# Altium schematic symbol library kmilo17pet-NSC_LDO.SchLib: 2675 symbols (part 31 of 65)
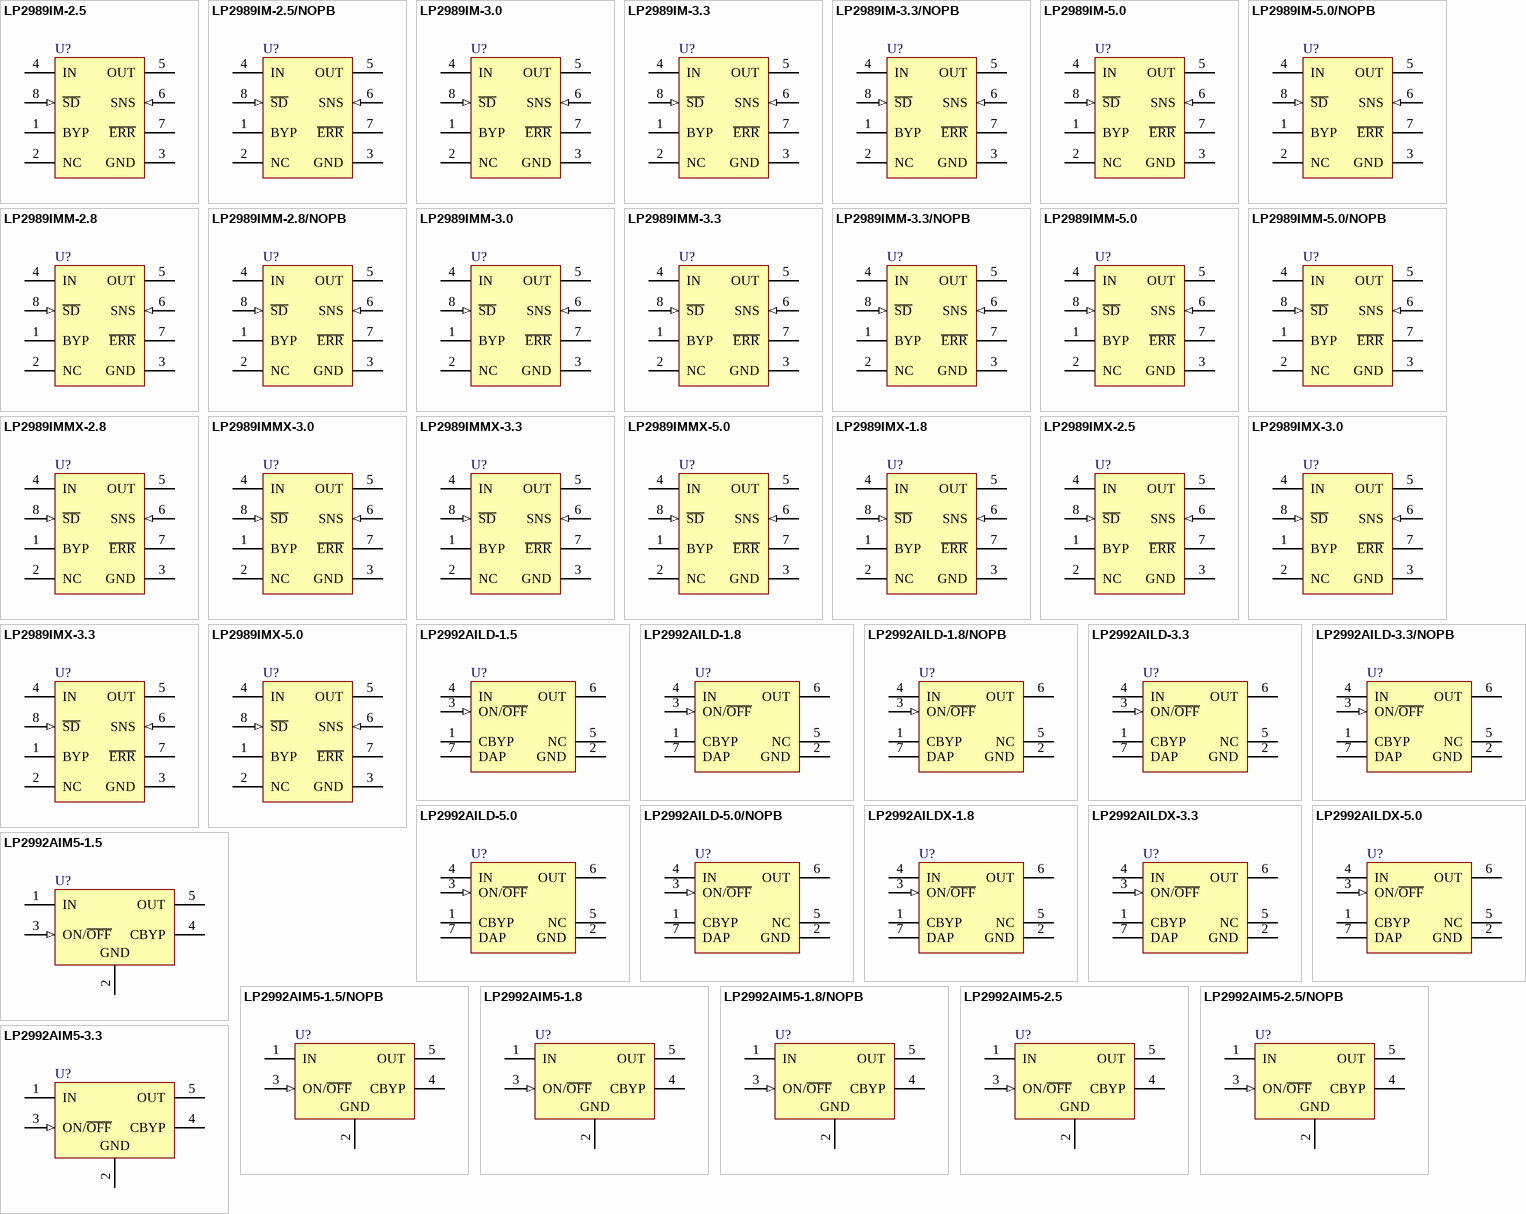
[diagram p97: symbols LP2989IM-2.5 to LP2992AIM5-3.3]

## LP2992AILD-3.3
designator U?
Micropower 250 mA Low-Noise Ultra Low-Dropout Regulator, 6-pin LLP; PartNumber: LP2992AILD-3.3; Manufacturer: National Semiconductor; PackageTopMarking: ZXYTT*L014A; PowerWise: N; CompType: LDO IC; High-Reliability: Y; DatasheetVersion: May-2005; PackageVersion: revA, Jul-2001; PackageReference: LDE06A; PackageDescription: LLP, Plastic, Dual, 2.92 x 3.29 x 0.75mm Body, 6 Lead, 0.95mm Pitch, SOT23 Land; RoHS: N; PinCount: 6; ComponentLink1Description: Manufacturer URL; ComponentLink1URL: http://www.national.com/; ComponentLink2Description: LP2992 Datasheet; ComponentLink2URL: http://www.national.com/ds/LP/LP2992.pdf; ComponentLink3Description: LP2992 Web Page; ComponentLink3URL: http://www.national.com/pf/LP/LP2992.html; ComponentLink4Description: LDE06A Package Page; ComponentLink4URL: http://www.national.com/packaging/folders/lde06a.html
footprint LDE06A (PSON, 6-Leads, Body 2.92x3.29 mm, Pitch 0.95mm, NSC Recommended)
pins: 1 CBYP, 2 GND (power), 3 ON/~{OFF} (in), 4 IN (power), 5 NC, 6 OUT (power), 7 DAP (power)

## LP2992AILD-3.3/NOPB
designator U?
Micropower 250 mA Low-Noise Ultra Low-Dropout Regulator, 6-pin LLP, Pb-Free; PartNumber: LP2992AILD-3.3/NOPB; Manufacturer: National Semiconductor; PackageTopMarking: ZXYTT*L014A; PowerWise: N; CompType: LDO IC; High-Reliability: Y; DatasheetVersion: May-2005; PackageVersion: revA, Jul-2001; PackageReference: LDE06A; PackageDescription: LLP, Plastic, Dual, 2.92 x 3.29 x 0.75mm Body, 6 Lead, 0.95mm Pitch, SOT23 Land; RoHS: Y; PinCount: 6; ComponentLink1Description: Manufacturer URL; ComponentLink1URL: http://www.national.com/; ComponentLink2Description: LP2992 Datasheet; ComponentLink2URL: http://www.national.com/ds/LP/LP2992.pdf; ComponentLink3Description: LP2992 Web Page; ComponentLink3URL: http://www.national.com/pf/LP/LP2992.html; ComponentLink4Description: LDE06A Package Page; ComponentLink4URL: http://www.national.com/packaging/folders/lde06a.html
footprint LDE06A (PSON, 6-Leads, Body 2.92x3.29 mm, Pitch 0.95mm, NSC Recommended)
pins: 1 CBYP, 2 GND (power), 3 ON/~{OFF} (in), 4 IN (power), 5 NC, 6 OUT (power), 7 DAP (power)

## LP2992AILD-5.0
designator U?
Micropower 250 mA Low-Noise Ultra Low-Dropout Regulator, 6-pin LLP; PartNumber: LP2992AILD-5.0; Manufacturer: National Semiconductor; PackageTopMarking: ZXYTT*L015A; PowerWise: N; CompType: LDO IC; High-Reliability: Y; DatasheetVersion: May-2005; PackageVersion: revA, Jul-2001; PackageReference: LDE06A; PackageDescription: LLP, Plastic, Dual, 2.92 x 3.29 x 0.75mm Body, 6 Lead, 0.95mm Pitch, SOT23 Land; RoHS: N; PinCount: 6; ComponentLink1Description: Manufacturer URL; ComponentLink1URL: http://www.national.com/; ComponentLink2Description: LP2992 Datasheet; ComponentLink2URL: http://www.national.com/ds/LP/LP2992.pdf; ComponentLink3Description: LP2992 Web Page; ComponentLink3URL: http://www.national.com/pf/LP/LP2992.html; ComponentLink4Description: LDE06A Package Page; ComponentLink4URL: http://www.national.com/packaging/folders/lde06a.html
footprint LDE06A (PSON, 6-Leads, Body 2.92x3.29 mm, Pitch 0.95mm, NSC Recommended)
pins: 1 CBYP, 2 GND (power), 3 ON/~{OFF} (in), 4 IN (power), 5 NC, 6 OUT (power), 7 DAP (power)

## LP2992AILD-5.0/NOPB
designator U?
Micropower 250 mA Low-Noise Ultra Low-Dropout Regulator, 6-pin LLP, Pb-Free; PartNumber: LP2992AILD-5.0/NOPB; Manufacturer: National Semiconductor; PackageTopMarking: ZXYTT*L015A; PowerWise: N; CompType: LDO IC; High-Reliability: Y; DatasheetVersion: May-2005; PackageVersion: revA, Jul-2001; PackageReference: LDE06A; PackageDescription: LLP, Plastic, Dual, 2.92 x 3.29 x 0.75mm Body, 6 Lead, 0.95mm Pitch, SOT23 Land; RoHS: Y; PinCount: 6; ComponentLink1Description: Manufacturer URL; ComponentLink1URL: http://www.national.com/; ComponentLink2Description: LP2992 Datasheet; ComponentLink2URL: http://www.national.com/ds/LP/LP2992.pdf; ComponentLink3Description: LP2992 Web Page; ComponentLink3URL: http://www.national.com/pf/LP/LP2992.html; ComponentLink4Description: LDE06A Package Page; ComponentLink4URL: http://www.national.com/packaging/folders/lde06a.html
footprint LDE06A (PSON, 6-Leads, Body 2.92x3.29 mm, Pitch 0.95mm, NSC Recommended)
pins: 1 CBYP, 2 GND (power), 3 ON/~{OFF} (in), 4 IN (power), 5 NC, 6 OUT (power), 7 DAP (power)

## LP2992AILDX-1.8
designator U?
Micropower 250 mA Low-Noise Ultra Low-Dropout Regulator, 6-pin LLP; PartNumber: LP2992AILDX-1.8; Manufacturer: National Semiconductor; PackageTopMarking: ZXYTT*L012A; PowerWise: N; CompType: LDO IC; High-Reliability: Y; DatasheetVersion: May-2005; PackageVersion: revA, Jul-2001; PackageReference: LDE06A; PackageDescription: LLP, Plastic, Dual, 2.92 x 3.29 x 0.75mm Body, 6 Lead, 0.95mm Pitch, SOT23 Land; RoHS: N; PinCount: 6; ComponentLink1Description: Manufacturer URL; ComponentLink1URL: http://www.national.com/; ComponentLink2Description: LP2992 Datasheet; ComponentLink2URL: http://www.national.com/ds/LP/LP2992.pdf; ComponentLink3Description: LP2992 Web Page; ComponentLink3URL: http://www.national.com/pf/LP/LP2992.html; ComponentLink4Description: LDE06A Package Page; ComponentLink4URL: http://www.national.com/packaging/folders/lde06a.html
footprint LDE06A (PSON, 6-Leads, Body 2.92x3.29 mm, Pitch 0.95mm, NSC Recommended)
pins: 1 CBYP, 2 GND (power), 3 ON/~{OFF} (in), 4 IN (power), 5 NC, 6 OUT (power), 7 DAP (power)

## LP2992AILDX-3.3
designator U?
Micropower 250 mA Low-Noise Ultra Low-Dropout Regulator, 6-pin LLP; PartNumber: LP2992AILDX-3.3; Manufacturer: National Semiconductor; PackageTopMarking: ZXYTT*L014A; PowerWise: N; CompType: LDO IC; High-Reliability: Y; DatasheetVersion: May-2005; PackageVersion: revA, Jul-2001; PackageReference: LDE06A; PackageDescription: LLP, Plastic, Dual, 2.92 x 3.29 x 0.75mm Body, 6 Lead, 0.95mm Pitch, SOT23 Land; RoHS: N; PinCount: 6; ComponentLink1Description: Manufacturer URL; ComponentLink1URL: http://www.national.com/; ComponentLink2Description: LP2992 Datasheet; ComponentLink2URL: http://www.national.com/ds/LP/LP2992.pdf; ComponentLink3Description: LP2992 Web Page; ComponentLink3URL: http://www.national.com/pf/LP/LP2992.html; ComponentLink4Description: LDE06A Package Page; ComponentLink4URL: http://www.national.com/packaging/folders/lde06a.html
footprint LDE06A (PSON, 6-Leads, Body 2.92x3.29 mm, Pitch 0.95mm, NSC Recommended)
pins: 1 CBYP, 2 GND (power), 3 ON/~{OFF} (in), 4 IN (power), 5 NC, 6 OUT (power), 7 DAP (power)

## LP2992AILDX-5.0
designator U?
Micropower 250 mA Low-Noise Ultra Low-Dropout Regulator, 6-pin LLP; PartNumber: LP2992AILDX-5.0; Manufacturer: National Semiconductor; PackageTopMarking: ZXYTT*L015A; PowerWise: N; CompType: LDO IC; High-Reliability: Y; DatasheetVersion: May-2005; PackageVersion: revA, Jul-2001; PackageReference: LDE06A; PackageDescription: LLP, Plastic, Dual, 2.92 x 3.29 x 0.75mm Body, 6 Lead, 0.95mm Pitch, SOT23 Land; RoHS: N; PinCount: 6; ComponentLink1Description: Manufacturer URL; ComponentLink1URL: http://www.national.com/; ComponentLink2Description: LP2992 Datasheet; ComponentLink2URL: http://www.national.com/ds/LP/LP2992.pdf; ComponentLink3Description: LP2992 Web Page; ComponentLink3URL: http://www.national.com/pf/LP/LP2992.html; ComponentLink4Description: LDE06A Package Page; ComponentLink4URL: http://www.national.com/packaging/folders/lde06a.html
footprint LDE06A (PSON, 6-Leads, Body 2.92x3.29 mm, Pitch 0.95mm, NSC Recommended)
pins: 1 CBYP, 2 GND (power), 3 ON/~{OFF} (in), 4 IN (power), 5 NC, 6 OUT (power), 7 DAP (power)

## LP2992AIM5-1.5
designator U?
Micropower 250 mA Low-Noise Ultra Low-Dropout Regulator, 5-pin SOT-23; PartNumber: LP2992AIM5-1.5; Manufacturer: National Semiconductor; PackageTopMarking: LFBA*XTT; PowerWise: N; CompType: LDO IC; High-Reliability: Y; DatasheetVersion: May-2005; PackageVersion: revD, Aug-2008; PackageReference: MF05A; PackageDescription: Molded SOT-23, .115 x .063 x .040 in Body, 5 Lead, .0375 in Pitch; RoHS: N; PinCount: 5; ComponentLink1Description: Manufacturer URL; ComponentLink1URL: http://www.national.com/; ComponentLink2Description: LP2992 Datasheet; ComponentLink2URL: http://www.national.com/ds/LP/LP2992.pdf; ComponentLink3Description: LP2992 Web Page; ComponentLink3URL: http://www.national.com/pf/LP/LP2992.html; ComponentLink4Description: MF05A Package Page; ComponentLink4URL: http://www.national.com/packaging/folders/mf05a.html
footprint MF05A_N (SOT23, 5-Leads, Body 2.9x1.6mm, Pitch 0.95mm, Lead Span 2.8mm, IPC Medium Density)
footprint MF05A_L (SOT23, 5-Leads, Body 2.9x1.6mm, Pitch 0.95mm, Lead Span 2.8mm, IPC High Density)
footprint MF05A_M (SOT23, 5-Leads, Body 2.9x1.6mm, Pitch 0.95mm, Lead Span 2.8mm, IPC Low Density)
pins: 1 IN (power), 2 GND (power), 3 ON/~{OFF} (in), 4 CBYP, 5 OUT (power)

## LP2992AIM5-1.5/NOPB
designator U?
Micropower 250 mA Low-Noise Ultra Low-Dropout Regulator, 5-pin SOT-23, Pb-Free; PartNumber: LP2992AIM5-1.5/NOPB; Manufacturer: National Semiconductor; PackageTopMarking: LFBA*XTT; PowerWise: N; CompType: LDO IC; High-Reliability: Y; DatasheetVersion: May-2005; PackageVersion: revD, Aug-2008; PackageReference: MF05A; PackageDescription: Molded SOT-23, .115 x .063 x .040 in Body, 5 Lead, .0375 in Pitch; RoHS: Y; PinCount: 5; ComponentLink1Description: Manufacturer URL; ComponentLink1URL: http://www.national.com/; ComponentLink2Description: LP2992 Datasheet; ComponentLink2URL: http://www.national.com/ds/LP/LP2992.pdf; ComponentLink3Description: LP2992 Web Page; ComponentLink3URL: http://www.national.com/pf/LP/LP2992.html; ComponentLink4Description: MF05A Package Page; ComponentLink4URL: http://www.national.com/packaging/folders/mf05a.html
footprint MF05A_N (SOT23, 5-Leads, Body 2.9x1.6mm, Pitch 0.95mm, Lead Span 2.8mm, IPC Medium Density)
footprint MF05A_L (SOT23, 5-Leads, Body 2.9x1.6mm, Pitch 0.95mm, Lead Span 2.8mm, IPC High Density)
footprint MF05A_M (SOT23, 5-Leads, Body 2.9x1.6mm, Pitch 0.95mm, Lead Span 2.8mm, IPC Low Density)
pins: 1 IN (power), 2 GND (power), 3 ON/~{OFF} (in), 4 CBYP, 5 OUT (power)

## LP2992AIM5-1.8
designator U?
Micropower 250 mA Low-Noise Ultra Low-Dropout Regulator, 5-pin SOT-23; PartNumber: LP2992AIM5-1.8; Manufacturer: National Semiconductor; PackageTopMarking: LFCA*XTT; PowerWise: N; CompType: LDO IC; High-Reliability: Y; DatasheetVersion: May-2005; PackageVersion: revD, Aug-2008; PackageReference: MF05A; PackageDescription: Molded SOT-23, .115 x .063 x .040 in Body, 5 Lead, .0375 in Pitch; RoHS: N; PinCount: 5; ComponentLink1Description: Manufacturer URL; ComponentLink1URL: http://www.national.com/; ComponentLink2Description: LP2992 Datasheet; ComponentLink2URL: http://www.national.com/ds/LP/LP2992.pdf; ComponentLink3Description: LP2992 Web Page; ComponentLink3URL: http://www.national.com/pf/LP/LP2992.html; ComponentLink4Description: MF05A Package Page; ComponentLink4URL: http://www.national.com/packaging/folders/mf05a.html
footprint MF05A_N (SOT23, 5-Leads, Body 2.9x1.6mm, Pitch 0.95mm, Lead Span 2.8mm, IPC Medium Density)
footprint MF05A_L (SOT23, 5-Leads, Body 2.9x1.6mm, Pitch 0.95mm, Lead Span 2.8mm, IPC High Density)
footprint MF05A_M (SOT23, 5-Leads, Body 2.9x1.6mm, Pitch 0.95mm, Lead Span 2.8mm, IPC Low Density)
pins: 1 IN (power), 2 GND (power), 3 ON/~{OFF} (in), 4 CBYP, 5 OUT (power)

## LP2992AIM5-1.8/NOPB
designator U?
Micropower 250 mA Low-Noise Ultra Low-Dropout Regulator, 5-pin SOT-23, Pb-Free; PartNumber: LP2992AIM5-1.8/NOPB; Manufacturer: National Semiconductor; PackageTopMarking: LFCA*XTT; PowerWise: N; CompType: LDO IC; High-Reliability: Y; DatasheetVersion: May-2005; PackageVersion: revD, Aug-2008; PackageReference: MF05A; PackageDescription: Molded SOT-23, .115 x .063 x .040 in Body, 5 Lead, .0375 in Pitch; RoHS: Y; PinCount: 5; ComponentLink1Description: Manufacturer URL; ComponentLink1URL: http://www.national.com/; ComponentLink2Description: LP2992 Datasheet; ComponentLink2URL: http://www.national.com/ds/LP/LP2992.pdf; ComponentLink3Description: LP2992 Web Page; ComponentLink3URL: http://www.national.com/pf/LP/LP2992.html; ComponentLink4Description: MF05A Package Page; ComponentLink4URL: http://www.national.com/packaging/folders/mf05a.html
footprint MF05A_N (SOT23, 5-Leads, Body 2.9x1.6mm, Pitch 0.95mm, Lead Span 2.8mm, IPC Medium Density)
footprint MF05A_L (SOT23, 5-Leads, Body 2.9x1.6mm, Pitch 0.95mm, Lead Span 2.8mm, IPC High Density)
footprint MF05A_M (SOT23, 5-Leads, Body 2.9x1.6mm, Pitch 0.95mm, Lead Span 2.8mm, IPC Low Density)
pins: 1 IN (power), 2 GND (power), 3 ON/~{OFF} (in), 4 CBYP, 5 OUT (power)

## LP2992AIM5-2.5
designator U?
Micropower 250 mA Low-Noise Ultra Low-Dropout Regulator, 5-pin SOT-23; PartNumber: LP2992AIM5-2.5; Manufacturer: National Semiconductor; PackageTopMarking: LFDA*XTT; PowerWise: N; CompType: LDO IC; High-Reliability: Y; DatasheetVersion: May-2005; PackageVersion: revD, Aug-2008; PackageReference: MF05A; PackageDescription: Molded SOT-23, .115 x .063 x .040 in Body, 5 Lead, .0375 in Pitch; RoHS: N; PinCount: 5; ComponentLink1Description: Manufacturer URL; ComponentLink1URL: http://www.national.com/; ComponentLink2Description: LP2992 Datasheet; ComponentLink2URL: http://www.national.com/ds/LP/LP2992.pdf; ComponentLink3Description: LP2992 Web Page; ComponentLink3URL: http://www.national.com/pf/LP/LP2992.html; ComponentLink4Description: MF05A Package Page; ComponentLink4URL: http://www.national.com/packaging/folders/mf05a.html
footprint MF05A_N (SOT23, 5-Leads, Body 2.9x1.6mm, Pitch 0.95mm, Lead Span 2.8mm, IPC Medium Density)
footprint MF05A_L (SOT23, 5-Leads, Body 2.9x1.6mm, Pitch 0.95mm, Lead Span 2.8mm, IPC High Density)
footprint MF05A_M (SOT23, 5-Leads, Body 2.9x1.6mm, Pitch 0.95mm, Lead Span 2.8mm, IPC Low Density)
pins: 1 IN (power), 2 GND (power), 3 ON/~{OFF} (in), 4 CBYP, 5 OUT (power)

## LP2992AIM5-2.5/NOPB
designator U?
Micropower 250 mA Low-Noise Ultra Low-Dropout Regulator, 5-pin SOT-23, Pb-Free; PartNumber: LP2992AIM5-2.5/NOPB; Manufacturer: National Semiconductor; PackageTopMarking: LFDA*XTT; PowerWise: N; CompType: LDO IC; High-Reliability: Y; DatasheetVersion: May-2005; PackageVersion: revD, Aug-2008; PackageReference: MF05A; PackageDescription: Molded SOT-23, .115 x .063 x .040 in Body, 5 Lead, .0375 in Pitch; RoHS: Y; PinCount: 5; ComponentLink1Description: Manufacturer URL; ComponentLink1URL: http://www.national.com/; ComponentLink2Description: LP2992 Datasheet; ComponentLink2URL: http://www.national.com/ds/LP/LP2992.pdf; ComponentLink3Description: LP2992 Web Page; ComponentLink3URL: http://www.national.com/pf/LP/LP2992.html; ComponentLink4Description: MF05A Package Page; ComponentLink4URL: http://www.national.com/packaging/folders/mf05a.html
footprint MF05A_N (SOT23, 5-Leads, Body 2.9x1.6mm, Pitch 0.95mm, Lead Span 2.8mm, IPC Medium Density)
footprint MF05A_L (SOT23, 5-Leads, Body 2.9x1.6mm, Pitch 0.95mm, Lead Span 2.8mm, IPC High Density)
footprint MF05A_M (SOT23, 5-Leads, Body 2.9x1.6mm, Pitch 0.95mm, Lead Span 2.8mm, IPC Low Density)
pins: 1 IN (power), 2 GND (power), 3 ON/~{OFF} (in), 4 CBYP, 5 OUT (power)

## LP2992AIM5-3.3
designator U?
Micropower 250 mA Low-Noise Ultra Low-Dropout Regulator, 5-pin SOT-23; PartNumber: LP2992AIM5-3.3; Manufacturer: National Semiconductor; PackageTopMarking: LFEA*XTT; PowerWise: N; CompType: LDO IC; High-Reliability: Y; DatasheetVersion: May-2005; PackageVersion: revD, Aug-2008; PackageReference: MF05A; PackageDescription: Molded SOT-23, .115 x .063 x .040 in Body, 5 Lead, .0375 in Pitch; RoHS: N; PinCount: 5; ComponentLink1Description: Manufacturer URL; ComponentLink1URL: http://www.national.com/; ComponentLink2Description: LP2992 Datasheet; ComponentLink2URL: http://www.national.com/ds/LP/LP2992.pdf; ComponentLink3Description: LP2992 Web Page; ComponentLink3URL: http://www.national.com/pf/LP/LP2992.html; ComponentLink4Description: MF05A Package Page; ComponentLink4URL: http://www.national.com/packaging/folders/mf05a.html
footprint MF05A_N (SOT23, 5-Leads, Body 2.9x1.6mm, Pitch 0.95mm, Lead Span 2.8mm, IPC Medium Density)
footprint MF05A_L (SOT23, 5-Leads, Body 2.9x1.6mm, Pitch 0.95mm, Lead Span 2.8mm, IPC High Density)
footprint MF05A_M (SOT23, 5-Leads, Body 2.9x1.6mm, Pitch 0.95mm, Lead Span 2.8mm, IPC Low Density)
pins: 1 IN (power), 2 GND (power), 3 ON/~{OFF} (in), 4 CBYP, 5 OUT (power)

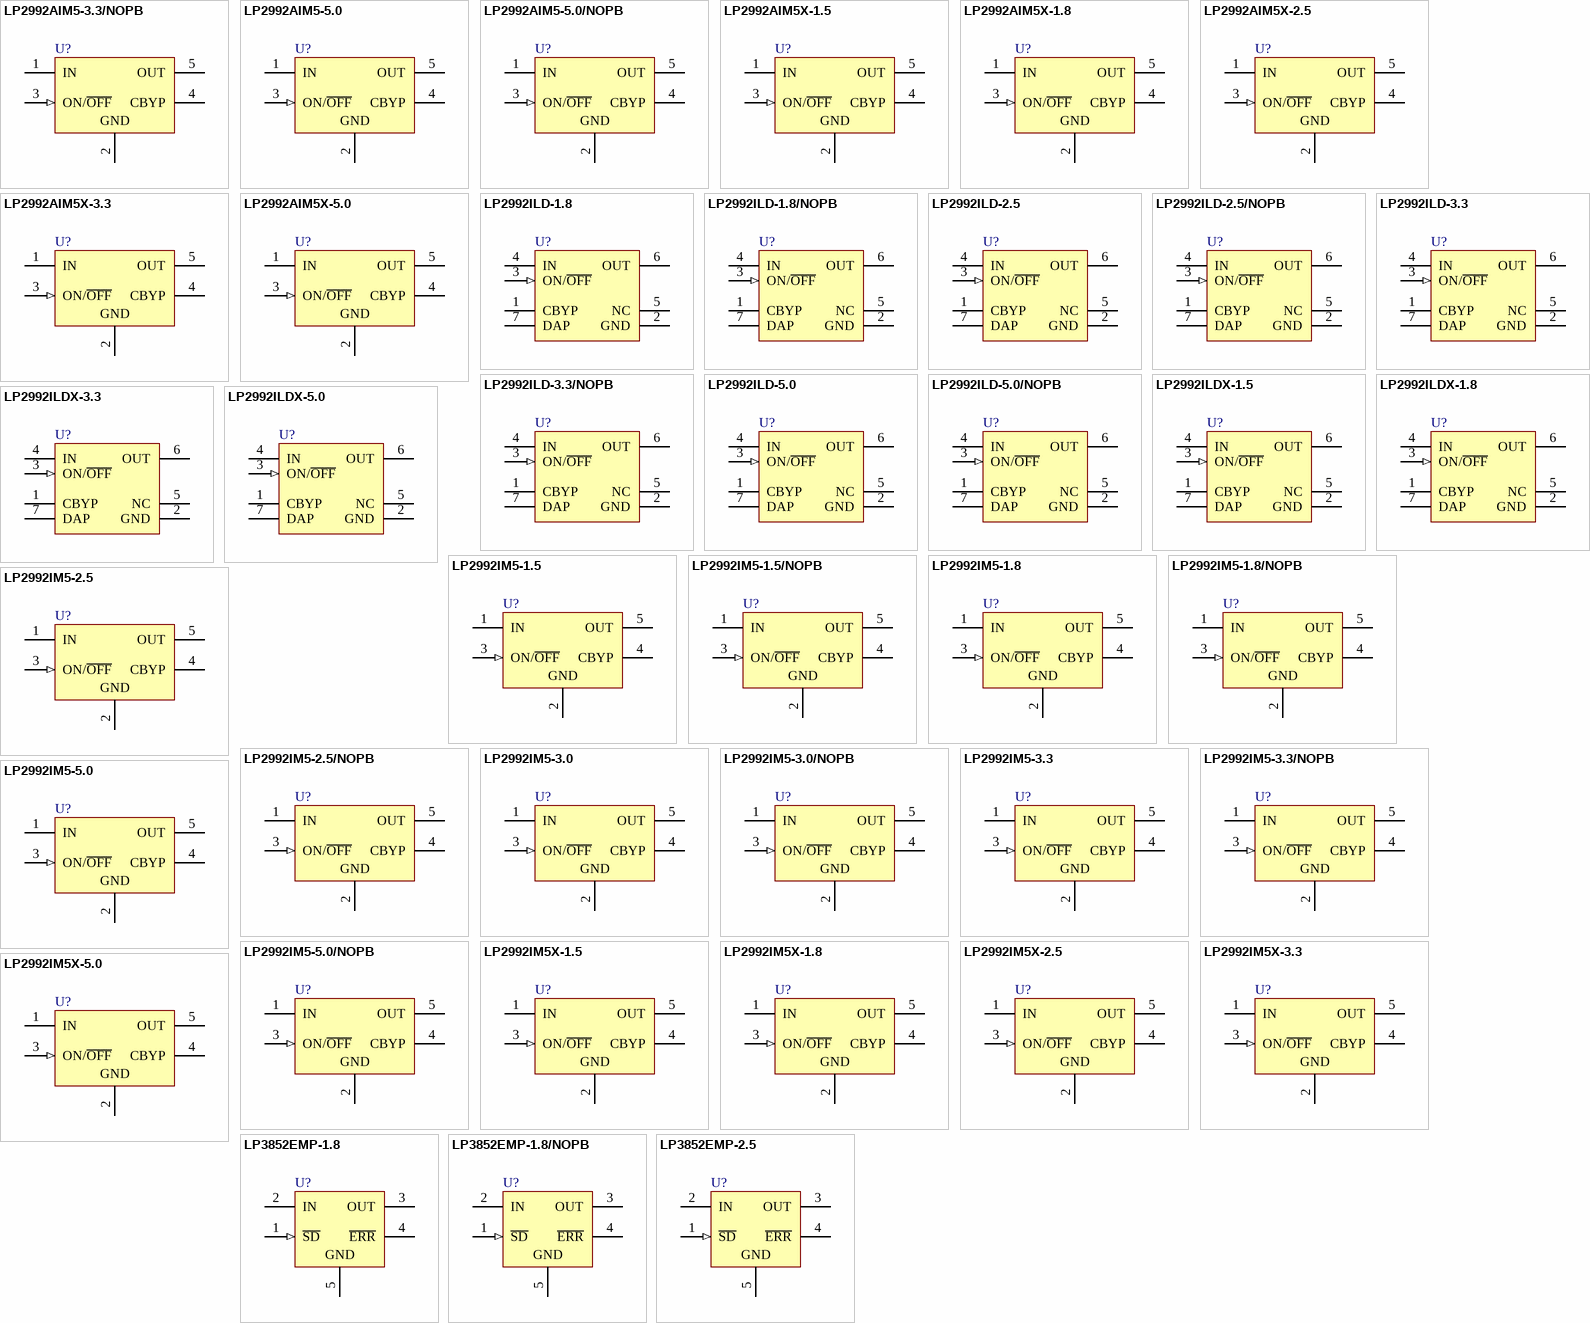
[diagram p32: symbols LP2992AIM5-3.3/NOPB to LP3852EMP-2.5]

## LP2992AIM5-3.3/NOPB
designator U?
Micropower 250 mA Low-Noise Ultra Low-Dropout Regulator, 5-pin SOT-23, Pb-Free; PartNumber: LP2992AIM5-3.3/NOPB; Manufacturer: National Semiconductor; PackageTopMarking: LFEA*XTT; PowerWise: N; CompType: LDO IC; High-Reliability: Y; DatasheetVersion: May-2005; PackageVersion: revD, Aug-2008; PackageReference: MF05A; PackageDescription: Molded SOT-23, .115 x .063 x .040 in Body, 5 Lead, .0375 in Pitch; RoHS: Y; PinCount: 5; ComponentLink1Description: Manufacturer URL; ComponentLink1URL: http://www.national.com/; ComponentLink2Description: LP2992 Datasheet; ComponentLink2URL: http://www.national.com/ds/LP/LP2992.pdf; ComponentLink3Description: LP2992 Web Page; ComponentLink3URL: http://www.national.com/pf/LP/LP2992.html; ComponentLink4Description: MF05A Package Page; ComponentLink4URL: http://www.national.com/packaging/folders/mf05a.html
footprint MF05A_N (SOT23, 5-Leads, Body 2.9x1.6mm, Pitch 0.95mm, Lead Span 2.8mm, IPC Medium Density)
footprint MF05A_L (SOT23, 5-Leads, Body 2.9x1.6mm, Pitch 0.95mm, Lead Span 2.8mm, IPC High Density)
footprint MF05A_M (SOT23, 5-Leads, Body 2.9x1.6mm, Pitch 0.95mm, Lead Span 2.8mm, IPC Low Density)
pins: 1 IN (power), 2 GND (power), 3 ON/~{OFF} (in), 4 CBYP, 5 OUT (power)

## LP2992AIM5-5.0
designator U?
Micropower 250 mA Low-Noise Ultra Low-Dropout Regulator, 5-pin SOT-23; PartNumber: LP2992AIM5-5.0; Manufacturer: National Semiconductor; PackageTopMarking: LFFA*XTT; PowerWise: N; CompType: LDO IC; High-Reliability: Y; DatasheetVersion: May-2005; PackageVersion: revD, Aug-2008; PackageReference: MF05A; PackageDescription: Molded SOT-23, .115 x .063 x .040 in Body, 5 Lead, .0375 in Pitch; RoHS: N; PinCount: 5; ComponentLink1Description: Manufacturer URL; ComponentLink1URL: http://www.national.com/; ComponentLink2Description: LP2992 Datasheet; ComponentLink2URL: http://www.national.com/ds/LP/LP2992.pdf; ComponentLink3Description: LP2992 Web Page; ComponentLink3URL: http://www.national.com/pf/LP/LP2992.html; ComponentLink4Description: MF05A Package Page; ComponentLink4URL: http://www.national.com/packaging/folders/mf05a.html
footprint MF05A_N (SOT23, 5-Leads, Body 2.9x1.6mm, Pitch 0.95mm, Lead Span 2.8mm, IPC Medium Density)
footprint MF05A_L (SOT23, 5-Leads, Body 2.9x1.6mm, Pitch 0.95mm, Lead Span 2.8mm, IPC High Density)
footprint MF05A_M (SOT23, 5-Leads, Body 2.9x1.6mm, Pitch 0.95mm, Lead Span 2.8mm, IPC Low Density)
pins: 1 IN (power), 2 GND (power), 3 ON/~{OFF} (in), 4 CBYP, 5 OUT (power)

## LP2992AIM5-5.0/NOPB
designator U?
Micropower 250 mA Low-Noise Ultra Low-Dropout Regulator, 5-pin SOT-23, Pb-Free; PartNumber: LP2992AIM5-5.0/NOPB; Manufacturer: National Semiconductor; PackageTopMarking: LFFA*XTT; PowerWise: N; CompType: LDO IC; High-Reliability: Y; DatasheetVersion: May-2005; PackageVersion: revD, Aug-2008; PackageReference: MF05A; PackageDescription: Molded SOT-23, .115 x .063 x .040 in Body, 5 Lead, .0375 in Pitch; RoHS: Y; PinCount: 5; ComponentLink1Description: Manufacturer URL; ComponentLink1URL: http://www.national.com/; ComponentLink2Description: LP2992 Datasheet; ComponentLink2URL: http://www.national.com/ds/LP/LP2992.pdf; ComponentLink3Description: LP2992 Web Page; ComponentLink3URL: http://www.national.com/pf/LP/LP2992.html; ComponentLink4Description: MF05A Package Page; ComponentLink4URL: http://www.national.com/packaging/folders/mf05a.html
footprint MF05A_N (SOT23, 5-Leads, Body 2.9x1.6mm, Pitch 0.95mm, Lead Span 2.8mm, IPC Medium Density)
footprint MF05A_L (SOT23, 5-Leads, Body 2.9x1.6mm, Pitch 0.95mm, Lead Span 2.8mm, IPC High Density)
footprint MF05A_M (SOT23, 5-Leads, Body 2.9x1.6mm, Pitch 0.95mm, Lead Span 2.8mm, IPC Low Density)
pins: 1 IN (power), 2 GND (power), 3 ON/~{OFF} (in), 4 CBYP, 5 OUT (power)

## LP2992AIM5X-1.5
designator U?
Micropower 250 mA Low-Noise Ultra Low-Dropout Regulator, 5-pin SOT-23; PartNumber: LP2992AIM5X-1.5; Manufacturer: National Semiconductor; PackageTopMarking: LFBA*XTT; PowerWise: N; CompType: LDO IC; High-Reliability: Y; DatasheetVersion: May-2005; PackageVersion: revD, Aug-2008; PackageReference: MF05A; PackageDescription: Molded SOT-23, .115 x .063 x .040 in Body, 5 Lead, .0375 in Pitch; RoHS: N; PinCount: 5; ComponentLink1Description: Manufacturer URL; ComponentLink1URL: http://www.national.com/; ComponentLink2Description: LP2992 Datasheet; ComponentLink2URL: http://www.national.com/ds/LP/LP2992.pdf; ComponentLink3Description: LP2992 Web Page; ComponentLink3URL: http://www.national.com/pf/LP/LP2992.html; ComponentLink4Description: MF05A Package Page; ComponentLink4URL: http://www.national.com/packaging/folders/mf05a.html
footprint MF05A_N (SOT23, 5-Leads, Body 2.9x1.6mm, Pitch 0.95mm, Lead Span 2.8mm, IPC Medium Density)
footprint MF05A_L (SOT23, 5-Leads, Body 2.9x1.6mm, Pitch 0.95mm, Lead Span 2.8mm, IPC High Density)
footprint MF05A_M (SOT23, 5-Leads, Body 2.9x1.6mm, Pitch 0.95mm, Lead Span 2.8mm, IPC Low Density)
pins: 1 IN (power), 2 GND (power), 3 ON/~{OFF} (in), 4 CBYP, 5 OUT (power)

## LP2992AIM5X-1.8
designator U?
Micropower 250 mA Low-Noise Ultra Low-Dropout Regulator, 5-pin SOT-23; PartNumber: LP2992AIM5X-1.8; Manufacturer: National Semiconductor; PackageTopMarking: LFCA*XTT; PowerWise: N; CompType: LDO IC; High-Reliability: Y; DatasheetVersion: May-2005; PackageVersion: revD, Aug-2008; PackageReference: MF05A; PackageDescription: Molded SOT-23, .115 x .063 x .040 in Body, 5 Lead, .0375 in Pitch; RoHS: N; PinCount: 5; ComponentLink1Description: Manufacturer URL; ComponentLink1URL: http://www.national.com/; ComponentLink2Description: LP2992 Datasheet; ComponentLink2URL: http://www.national.com/ds/LP/LP2992.pdf; ComponentLink3Description: LP2992 Web Page; ComponentLink3URL: http://www.national.com/pf/LP/LP2992.html; ComponentLink4Description: MF05A Package Page; ComponentLink4URL: http://www.national.com/packaging/folders/mf05a.html
footprint MF05A_N (SOT23, 5-Leads, Body 2.9x1.6mm, Pitch 0.95mm, Lead Span 2.8mm, IPC Medium Density)
footprint MF05A_L (SOT23, 5-Leads, Body 2.9x1.6mm, Pitch 0.95mm, Lead Span 2.8mm, IPC High Density)
footprint MF05A_M (SOT23, 5-Leads, Body 2.9x1.6mm, Pitch 0.95mm, Lead Span 2.8mm, IPC Low Density)
pins: 1 IN (power), 2 GND (power), 3 ON/~{OFF} (in), 4 CBYP, 5 OUT (power)

## LP2992AIM5X-2.5
designator U?
Micropower 250 mA Low-Noise Ultra Low-Dropout Regulator, 5-pin SOT-23; PartNumber: LP2992AIM5X-2.5; Manufacturer: National Semiconductor; PackageTopMarking: LFDA*XTT; PowerWise: N; CompType: LDO IC; High-Reliability: Y; DatasheetVersion: May-2005; PackageVersion: revD, Aug-2008; PackageReference: MF05A; PackageDescription: Molded SOT-23, .115 x .063 x .040 in Body, 5 Lead, .0375 in Pitch; RoHS: N; PinCount: 5; ComponentLink1Description: Manufacturer URL; ComponentLink1URL: http://www.national.com/; ComponentLink2Description: LP2992 Datasheet; ComponentLink2URL: http://www.national.com/ds/LP/LP2992.pdf; ComponentLink3Description: LP2992 Web Page; ComponentLink3URL: http://www.national.com/pf/LP/LP2992.html; ComponentLink4Description: MF05A Package Page; ComponentLink4URL: http://www.national.com/packaging/folders/mf05a.html
footprint MF05A_N (SOT23, 5-Leads, Body 2.9x1.6mm, Pitch 0.95mm, Lead Span 2.8mm, IPC Medium Density)
footprint MF05A_L (SOT23, 5-Leads, Body 2.9x1.6mm, Pitch 0.95mm, Lead Span 2.8mm, IPC High Density)
footprint MF05A_M (SOT23, 5-Leads, Body 2.9x1.6mm, Pitch 0.95mm, Lead Span 2.8mm, IPC Low Density)
pins: 1 IN (power), 2 GND (power), 3 ON/~{OFF} (in), 4 CBYP, 5 OUT (power)

## LP2992AIM5X-3.3
designator U?
Micropower 250 mA Low-Noise Ultra Low-Dropout Regulator, 5-pin SOT-23; PartNumber: LP2992AIM5X-3.3; Manufacturer: National Semiconductor; PackageTopMarking: LFEA*XTT; PowerWise: N; CompType: LDO IC; High-Reliability: Y; DatasheetVersion: May-2005; PackageVersion: revD, Aug-2008; PackageReference: MF05A; PackageDescription: Molded SOT-23, .115 x .063 x .040 in Body, 5 Lead, .0375 in Pitch; RoHS: N; PinCount: 5; ComponentLink1Description: Manufacturer URL; ComponentLink1URL: http://www.national.com/; ComponentLink2Description: LP2992 Datasheet; ComponentLink2URL: http://www.national.com/ds/LP/LP2992.pdf; ComponentLink3Description: LP2992 Web Page; ComponentLink3URL: http://www.national.com/pf/LP/LP2992.html; ComponentLink4Description: MF05A Package Page; ComponentLink4URL: http://www.national.com/packaging/folders/mf05a.html
footprint MF05A_N (SOT23, 5-Leads, Body 2.9x1.6mm, Pitch 0.95mm, Lead Span 2.8mm, IPC Medium Density)
footprint MF05A_L (SOT23, 5-Leads, Body 2.9x1.6mm, Pitch 0.95mm, Lead Span 2.8mm, IPC High Density)
footprint MF05A_M (SOT23, 5-Leads, Body 2.9x1.6mm, Pitch 0.95mm, Lead Span 2.8mm, IPC Low Density)
pins: 1 IN (power), 2 GND (power), 3 ON/~{OFF} (in), 4 CBYP, 5 OUT (power)

## LP2992AIM5X-5.0
designator U?
Micropower 250 mA Low-Noise Ultra Low-Dropout Regulator, 5-pin SOT-23; PartNumber: LP2992AIM5X-5.0; Manufacturer: National Semiconductor; PackageTopMarking: LFFA*XTT; PowerWise: N; CompType: LDO IC; High-Reliability: Y; DatasheetVersion: May-2005; PackageVersion: revD, Aug-2008; PackageReference: MF05A; PackageDescription: Molded SOT-23, .115 x .063 x .040 in Body, 5 Lead, .0375 in Pitch; RoHS: N; PinCount: 5; ComponentLink1Description: Manufacturer URL; ComponentLink1URL: http://www.national.com/; ComponentLink2Description: LP2992 Datasheet; ComponentLink2URL: http://www.national.com/ds/LP/LP2992.pdf; ComponentLink3Description: LP2992 Web Page; ComponentLink3URL: http://www.national.com/pf/LP/LP2992.html; ComponentLink4Description: MF05A Package Page; ComponentLink4URL: http://www.national.com/packaging/folders/mf05a.html
footprint MF05A_N (SOT23, 5-Leads, Body 2.9x1.6mm, Pitch 0.95mm, Lead Span 2.8mm, IPC Medium Density)
footprint MF05A_L (SOT23, 5-Leads, Body 2.9x1.6mm, Pitch 0.95mm, Lead Span 2.8mm, IPC High Density)
footprint MF05A_M (SOT23, 5-Leads, Body 2.9x1.6mm, Pitch 0.95mm, Lead Span 2.8mm, IPC Low Density)
pins: 1 IN (power), 2 GND (power), 3 ON/~{OFF} (in), 4 CBYP, 5 OUT (power)

## LP2992ILD-1.8
designator U?
Micropower 250 mA Low-Noise Ultra Low-Dropout Regulator, 6-pin LLP; PartNumber: LP2992ILD-1.8; Manufacturer: National Semiconductor; PackageTopMarking: ZXYTT*L012A*B; PowerWise: N; CompType: LDO IC; High-Reliability: Y; DatasheetVersion: May-2005; PackageVersion: revA, Jul-2001; PackageReference: LDE06A; PackageDescription: LLP, Plastic, Dual, 2.92 x 3.29 x 0.75mm Body, 6 Lead, 0.95mm Pitch, SOT23 Land; RoHS: N; PinCount: 6; ComponentLink1Description: Manufacturer URL; ComponentLink1URL: http://www.national.com/; ComponentLink2Description: LP2992 Datasheet; ComponentLink2URL: http://www.national.com/ds/LP/LP2992.pdf; ComponentLink3Description: LP2992 Web Page; ComponentLink3URL: http://www.national.com/pf/LP/LP2992.html; ComponentLink4Description: LDE06A Package Page; ComponentLink4URL: http://www.national.com/packaging/folders/lde06a.html
footprint LDE06A (PSON, 6-Leads, Body 2.92x3.29 mm, Pitch 0.95mm, NSC Recommended)
pins: 1 CBYP, 2 GND (power), 3 ON/~{OFF} (in), 4 IN (power), 5 NC, 6 OUT (power), 7 DAP (power)

## LP2992ILD-1.8/NOPB
designator U?
Micropower 250 mA Low-Noise Ultra Low-Dropout Regulator, 6-pin LLP, Pb-Free; PartNumber: LP2992ILD-1.8/NOPB; Manufacturer: National Semiconductor; PackageTopMarking: ZXYTT*L012A*B; PowerWise: N; CompType: LDO IC; High-Reliability: Y; DatasheetVersion: May-2005; PackageVersion: revA, Jul-2001; PackageReference: LDE06A; PackageDescription: LLP, Plastic, Dual, 2.92 x 3.29 x 0.75mm Body, 6 Lead, 0.95mm Pitch, SOT23 Land; RoHS: Y; PinCount: 6; ComponentLink1Description: Manufacturer URL; ComponentLink1URL: http://www.national.com/; ComponentLink2Description: LP2992 Datasheet; ComponentLink2URL: http://www.national.com/ds/LP/LP2992.pdf; ComponentLink3Description: LP2992 Web Page; ComponentLink3URL: http://www.national.com/pf/LP/LP2992.html; ComponentLink4Description: LDE06A Package Page; ComponentLink4URL: http://www.national.com/packaging/folders/lde06a.html
footprint LDE06A (PSON, 6-Leads, Body 2.92x3.29 mm, Pitch 0.95mm, NSC Recommended)
pins: 1 CBYP, 2 GND (power), 3 ON/~{OFF} (in), 4 IN (power), 5 NC, 6 OUT (power), 7 DAP (power)

## LP2992ILD-2.5
designator U?
Micropower 250 mA Low-Noise Ultra Low-Dropout Regulator, 6-pin LLP; PartNumber: LP2992ILD-2.5; Manufacturer: National Semiconductor; PackageTopMarking: ZXYTT*L013A*B; PowerWise: N; CompType: LDO IC; High-Reliability: Y; DatasheetVersion: May-2005; PackageVersion: revA, Jul-2001; PackageReference: LDE06A; PackageDescription: LLP, Plastic, Dual, 2.92 x 3.29 x 0.75mm Body, 6 Lead, 0.95mm Pitch, SOT23 Land; RoHS: N; PinCount: 6; ComponentLink1Description: Manufacturer URL; ComponentLink1URL: http://www.national.com/; ComponentLink2Description: LP2992 Datasheet; ComponentLink2URL: http://www.national.com/ds/LP/LP2992.pdf; ComponentLink3Description: LP2992 Web Page; ComponentLink3URL: http://www.national.com/pf/LP/LP2992.html; ComponentLink4Description: LDE06A Package Page; ComponentLink4URL: http://www.national.com/packaging/folders/lde06a.html
footprint LDE06A (PSON, 6-Leads, Body 2.92x3.29 mm, Pitch 0.95mm, NSC Recommended)
pins: 1 CBYP, 2 GND (power), 3 ON/~{OFF} (in), 4 IN (power), 5 NC, 6 OUT (power), 7 DAP (power)

## LP2992ILD-2.5/NOPB
designator U?
Micropower 250 mA Low-Noise Ultra Low-Dropout Regulator, 6-pin LLP, Pb-Free; PartNumber: LP2992ILD-2.5/NOPB; Manufacturer: National Semiconductor; PackageTopMarking: ZXYTT*L013A*B; PowerWise: N; CompType: LDO IC; High-Reliability: Y; DatasheetVersion: May-2005; PackageVersion: revA, Jul-2001; PackageReference: LDE06A; PackageDescription: LLP, Plastic, Dual, 2.92 x 3.29 x 0.75mm Body, 6 Lead, 0.95mm Pitch, SOT23 Land; RoHS: Y; PinCount: 6; ComponentLink1Description: Manufacturer URL; ComponentLink1URL: http://www.national.com/; ComponentLink2Description: LP2992 Datasheet; ComponentLink2URL: http://www.national.com/ds/LP/LP2992.pdf; ComponentLink3Description: LP2992 Web Page; ComponentLink3URL: http://www.national.com/pf/LP/LP2992.html; ComponentLink4Description: LDE06A Package Page; ComponentLink4URL: http://www.national.com/packaging/folders/lde06a.html
footprint LDE06A (PSON, 6-Leads, Body 2.92x3.29 mm, Pitch 0.95mm, NSC Recommended)
pins: 1 CBYP, 2 GND (power), 3 ON/~{OFF} (in), 4 IN (power), 5 NC, 6 OUT (power), 7 DAP (power)

## LP2992ILD-3.3
designator U?
Micropower 250 mA Low-Noise Ultra Low-Dropout Regulator, 6-pin LLP; PartNumber: LP2992ILD-3.3; Manufacturer: National Semiconductor; PackageTopMarking: ZXYTT*L014A*B; PowerWise: N; CompType: LDO IC; High-Reliability: Y; DatasheetVersion: May-2005; PackageVersion: revA, Jul-2001; PackageReference: LDE06A; PackageDescription: LLP, Plastic, Dual, 2.92 x 3.29 x 0.75mm Body, 6 Lead, 0.95mm Pitch, SOT23 Land; RoHS: N; PinCount: 6; ComponentLink1Description: Manufacturer URL; ComponentLink1URL: http://www.national.com/; ComponentLink2Description: LP2992 Datasheet; ComponentLink2URL: http://www.national.com/ds/LP/LP2992.pdf; ComponentLink3Description: LP2992 Web Page; ComponentLink3URL: http://www.national.com/pf/LP/LP2992.html; ComponentLink4Description: LDE06A Package Page; ComponentLink4URL: http://www.national.com/packaging/folders/lde06a.html
footprint LDE06A (PSON, 6-Leads, Body 2.92x3.29 mm, Pitch 0.95mm, NSC Recommended)
pins: 1 CBYP, 2 GND (power), 3 ON/~{OFF} (in), 4 IN (power), 5 NC, 6 OUT (power), 7 DAP (power)

## LP2992ILD-3.3/NOPB
designator U?
Micropower 250 mA Low-Noise Ultra Low-Dropout Regulator, 6-pin LLP, Pb-Free; PartNumber: LP2992ILD-3.3/NOPB; Manufacturer: National Semiconductor; PackageTopMarking: ZXYTT*L014A*B; PowerWise: N; CompType: LDO IC; High-Reliability: Y; DatasheetVersion: May-2005; PackageVersion: revA, Jul-2001; PackageReference: LDE06A; PackageDescription: LLP, Plastic, Dual, 2.92 x 3.29 x 0.75mm Body, 6 Lead, 0.95mm Pitch, SOT23 Land; RoHS: Y; PinCount: 6; ComponentLink1Description: Manufacturer URL; ComponentLink1URL: http://www.national.com/; ComponentLink2Description: LP2992 Datasheet; ComponentLink2URL: http://www.national.com/ds/LP/LP2992.pdf; ComponentLink3Description: LP2992 Web Page; ComponentLink3URL: http://www.national.com/pf/LP/LP2992.html; ComponentLink4Description: LDE06A Package Page; ComponentLink4URL: http://www.national.com/packaging/folders/lde06a.html
footprint LDE06A (PSON, 6-Leads, Body 2.92x3.29 mm, Pitch 0.95mm, NSC Recommended)
pins: 1 CBYP, 2 GND (power), 3 ON/~{OFF} (in), 4 IN (power), 5 NC, 6 OUT (power), 7 DAP (power)

## LP2992ILD-5.0
designator U?
Micropower 250 mA Low-Noise Ultra Low-Dropout Regulator, 6-pin LLP; PartNumber: LP2992ILD-5.0; Manufacturer: National Semiconductor; PackageTopMarking: ZXYTT*L015A*B; PowerWise: N; CompType: LDO IC; High-Reliability: Y; DatasheetVersion: May-2005; PackageVersion: revA, Jul-2001; PackageReference: LDE06A; PackageDescription: LLP, Plastic, Dual, 2.92 x 3.29 x 0.75mm Body, 6 Lead, 0.95mm Pitch, SOT23 Land; RoHS: N; PinCount: 6; ComponentLink1Description: Manufacturer URL; ComponentLink1URL: http://www.national.com/; ComponentLink2Description: LP2992 Datasheet; ComponentLink2URL: http://www.national.com/ds/LP/LP2992.pdf; ComponentLink3Description: LP2992 Web Page; ComponentLink3URL: http://www.national.com/pf/LP/LP2992.html; ComponentLink4Description: LDE06A Package Page; ComponentLink4URL: http://www.national.com/packaging/folders/lde06a.html
footprint LDE06A (PSON, 6-Leads, Body 2.92x3.29 mm, Pitch 0.95mm, NSC Recommended)
pins: 1 CBYP, 2 GND (power), 3 ON/~{OFF} (in), 4 IN (power), 5 NC, 6 OUT (power), 7 DAP (power)

## LP2992ILD-5.0/NOPB
designator U?
Micropower 250 mA Low-Noise Ultra Low-Dropout Regulator, 6-pin LLP, Pb-Free; PartNumber: LP2992ILD-5.0/NOPB; Manufacturer: National Semiconductor; PackageTopMarking: ZXYTT*L015A*B; PowerWise: N; CompType: LDO IC; High-Reliability: Y; DatasheetVersion: May-2005; PackageVersion: revA, Jul-2001; PackageReference: LDE06A; PackageDescription: LLP, Plastic, Dual, 2.92 x 3.29 x 0.75mm Body, 6 Lead, 0.95mm Pitch, SOT23 Land; RoHS: Y; PinCount: 6; ComponentLink1Description: Manufacturer URL; ComponentLink1URL: http://www.national.com/; ComponentLink2Description: LP2992 Datasheet; ComponentLink2URL: http://www.national.com/ds/LP/LP2992.pdf; ComponentLink3Description: LP2992 Web Page; ComponentLink3URL: http://www.national.com/pf/LP/LP2992.html; ComponentLink4Description: LDE06A Package Page; ComponentLink4URL: http://www.national.com/packaging/folders/lde06a.html
footprint LDE06A (PSON, 6-Leads, Body 2.92x3.29 mm, Pitch 0.95mm, NSC Recommended)
pins: 1 CBYP, 2 GND (power), 3 ON/~{OFF} (in), 4 IN (power), 5 NC, 6 OUT (power), 7 DAP (power)

## LP2992ILDX-1.5
designator U?
Micropower 250 mA Low-Noise Ultra Low-Dropout Regulator, 6-pin LLP; PartNumber: LP2992ILDX-1.5; Manufacturer: National Semiconductor; PackageTopMarking: ZXYTT*L011A*B; PowerWise: N; CompType: LDO IC; High-Reliability: Y; DatasheetVersion: May-2005; PackageVersion: revA, Jul-2001; PackageReference: LDE06A; PackageDescription: LLP, Plastic, Dual, 2.92 x 3.29 x 0.75mm Body, 6 Lead, 0.95mm Pitch, SOT23 Land; RoHS: N; PinCount: 6; ComponentLink1Description: Manufacturer URL; ComponentLink1URL: http://www.national.com/; ComponentLink2Description: LP2992 Datasheet; ComponentLink2URL: http://www.national.com/ds/LP/LP2992.pdf; ComponentLink3Description: LP2992 Web Page; ComponentLink3URL: http://www.national.com/pf/LP/LP2992.html; ComponentLink4Description: LDE06A Package Page; ComponentLink4URL: http://www.national.com/packaging/folders/lde06a.html
footprint LDE06A (PSON, 6-Leads, Body 2.92x3.29 mm, Pitch 0.95mm, NSC Recommended)
pins: 1 CBYP, 2 GND (power), 3 ON/~{OFF} (in), 4 IN (power), 5 NC, 6 OUT (power), 7 DAP (power)

## LP2992ILDX-1.8
designator U?
Micropower 250 mA Low-Noise Ultra Low-Dropout Regulator, 6-pin LLP; PartNumber: LP2992ILDX-1.8; Manufacturer: National Semiconductor; PackageTopMarking: ZXYTT*L012A*B; PowerWise: N; CompType: LDO IC; High-Reliability: Y; DatasheetVersion: May-2005; PackageVersion: revA, Jul-2001; PackageReference: LDE06A; PackageDescription: LLP, Plastic, Dual, 2.92 x 3.29 x 0.75mm Body, 6 Lead, 0.95mm Pitch, SOT23 Land; RoHS: N; PinCount: 6; ComponentLink1Description: Manufacturer URL; ComponentLink1URL: http://www.national.com/; ComponentLink2Description: LP2992 Datasheet; ComponentLink2URL: http://www.national.com/ds/LP/LP2992.pdf; ComponentLink3Description: LP2992 Web Page; ComponentLink3URL: http://www.national.com/pf/LP/LP2992.html; ComponentLink4Description: LDE06A Package Page; ComponentLink4URL: http://www.national.com/packaging/folders/lde06a.html
footprint LDE06A (PSON, 6-Leads, Body 2.92x3.29 mm, Pitch 0.95mm, NSC Recommended)
pins: 1 CBYP, 2 GND (power), 3 ON/~{OFF} (in), 4 IN (power), 5 NC, 6 OUT (power), 7 DAP (power)

## LP2992ILDX-3.3
designator U?
Micropower 250 mA Low-Noise Ultra Low-Dropout Regulator, 6-pin LLP; PartNumber: LP2992ILDX-3.3; Manufacturer: National Semiconductor; PackageTopMarking: ZXYTT*L014A*B; PowerWise: N; CompType: LDO IC; High-Reliability: Y; DatasheetVersion: May-2005; PackageVersion: revA, Jul-2001; PackageReference: LDE06A; PackageDescription: LLP, Plastic, Dual, 2.92 x 3.29 x 0.75mm Body, 6 Lead, 0.95mm Pitch, SOT23 Land; RoHS: N; PinCount: 6; ComponentLink1Description: Manufacturer URL; ComponentLink1URL: http://www.national.com/; ComponentLink2Description: LP2992 Datasheet; ComponentLink2URL: http://www.national.com/ds/LP/LP2992.pdf; ComponentLink3Description: LP2992 Web Page; ComponentLink3URL: http://www.national.com/pf/LP/LP2992.html; ComponentLink4Description: LDE06A Package Page; ComponentLink4URL: http://www.national.com/packaging/folders/lde06a.html
footprint LDE06A (PSON, 6-Leads, Body 2.92x3.29 mm, Pitch 0.95mm, NSC Recommended)
pins: 1 CBYP, 2 GND (power), 3 ON/~{OFF} (in), 4 IN (power), 5 NC, 6 OUT (power), 7 DAP (power)

## LP2992ILDX-5.0
designator U?
Micropower 250 mA Low-Noise Ultra Low-Dropout Regulator, 6-pin LLP; PartNumber: LP2992ILDX-5.0; Manufacturer: National Semiconductor; PackageTopMarking: ZXYTT*L015A*B; PowerWise: N; CompType: LDO IC; High-Reliability: Y; DatasheetVersion: May-2005; PackageVersion: revA, Jul-2001; PackageReference: LDE06A; PackageDescription: LLP, Plastic, Dual, 2.92 x 3.29 x 0.75mm Body, 6 Lead, 0.95mm Pitch, SOT23 Land; RoHS: N; PinCount: 6; ComponentLink1Description: Manufacturer URL; ComponentLink1URL: http://www.national.com/; ComponentLink2Description: LP2992 Datasheet; ComponentLink2URL: http://www.national.com/ds/LP/LP2992.pdf; ComponentLink3Description: LP2992 Web Page; ComponentLink3URL: http://www.national.com/pf/LP/LP2992.html; ComponentLink4Description: LDE06A Package Page; ComponentLink4URL: http://www.national.com/packaging/folders/lde06a.html
footprint LDE06A (PSON, 6-Leads, Body 2.92x3.29 mm, Pitch 0.95mm, NSC Recommended)
pins: 1 CBYP, 2 GND (power), 3 ON/~{OFF} (in), 4 IN (power), 5 NC, 6 OUT (power), 7 DAP (power)

## LP2992IM5-1.5
designator U?
Micropower 250 mA Low-Noise Ultra Low-Dropout Regulator, 5-pin SOT-23; PartNumber: LP2992IM5-1.5; Manufacturer: National Semiconductor; PackageTopMarking: LFBB*XTT; PowerWise: N; CompType: LDO IC; High-Reliability: Y; DatasheetVersion: May-2005; PackageVersion: revD, Aug-2008; PackageReference: MF05A; PackageDescription: Molded SOT-23, .115 x .063 x .040 in Body, 5 Lead, .0375 in Pitch; RoHS: N; PinCount: 5; ComponentLink1Description: Manufacturer URL; ComponentLink1URL: http://www.national.com/; ComponentLink2Description: LP2992 Datasheet; ComponentLink2URL: http://www.national.com/ds/LP/LP2992.pdf; ComponentLink3Description: LP2992 Web Page; ComponentLink3URL: http://www.national.com/pf/LP/LP2992.html; ComponentLink4Description: MF05A Package Page; ComponentLink4URL: http://www.national.com/packaging/folders/mf05a.html
footprint MF05A_N (SOT23, 5-Leads, Body 2.9x1.6mm, Pitch 0.95mm, Lead Span 2.8mm, IPC Medium Density)
footprint MF05A_L (SOT23, 5-Leads, Body 2.9x1.6mm, Pitch 0.95mm, Lead Span 2.8mm, IPC High Density)
footprint MF05A_M (SOT23, 5-Leads, Body 2.9x1.6mm, Pitch 0.95mm, Lead Span 2.8mm, IPC Low Density)
pins: 1 IN (power), 2 GND (power), 3 ON/~{OFF} (in), 4 CBYP, 5 OUT (power)

## LP2992IM5-1.5/NOPB
designator U?
Micropower 250 mA Low-Noise Ultra Low-Dropout Regulator, 5-pin SOT-23, Pb-Free; PartNumber: LP2992IM5-1.5/NOPB; Manufacturer: National Semiconductor; PackageTopMarking: LFBB*XTT; PowerWise: N; CompType: LDO IC; High-Reliability: Y; DatasheetVersion: May-2005; PackageVersion: revD, Aug-2008; PackageReference: MF05A; PackageDescription: Molded SOT-23, .115 x .063 x .040 in Body, 5 Lead, .0375 in Pitch; RoHS: Y; PinCount: 5; ComponentLink1Description: Manufacturer URL; ComponentLink1URL: http://www.national.com/; ComponentLink2Description: LP2992 Datasheet; ComponentLink2URL: http://www.national.com/ds/LP/LP2992.pdf; ComponentLink3Description: LP2992 Web Page; ComponentLink3URL: http://www.national.com/pf/LP/LP2992.html; ComponentLink4Description: MF05A Package Page; ComponentLink4URL: http://www.national.com/packaging/folders/mf05a.html
footprint MF05A_N (SOT23, 5-Leads, Body 2.9x1.6mm, Pitch 0.95mm, Lead Span 2.8mm, IPC Medium Density)
footprint MF05A_L (SOT23, 5-Leads, Body 2.9x1.6mm, Pitch 0.95mm, Lead Span 2.8mm, IPC High Density)
footprint MF05A_M (SOT23, 5-Leads, Body 2.9x1.6mm, Pitch 0.95mm, Lead Span 2.8mm, IPC Low Density)
pins: 1 IN (power), 2 GND (power), 3 ON/~{OFF} (in), 4 CBYP, 5 OUT (power)

## LP2992IM5-1.8
designator U?
Micropower 250 mA Low-Noise Ultra Low-Dropout Regulator, 5-pin SOT-23; PartNumber: LP2992IM5-1.8; Manufacturer: National Semiconductor; PackageTopMarking: LFCB*XTT; PowerWise: N; CompType: LDO IC; High-Reliability: Y; DatasheetVersion: May-2005; PackageVersion: revD, Aug-2008; PackageReference: MF05A; PackageDescription: Molded SOT-23, .115 x .063 x .040 in Body, 5 Lead, .0375 in Pitch; RoHS: N; PinCount: 5; ComponentLink1Description: Manufacturer URL; ComponentLink1URL: http://www.national.com/; ComponentLink2Description: LP2992 Datasheet; ComponentLink2URL: http://www.national.com/ds/LP/LP2992.pdf; ComponentLink3Description: LP2992 Web Page; ComponentLink3URL: http://www.national.com/pf/LP/LP2992.html; ComponentLink4Description: MF05A Package Page; ComponentLink4URL: http://www.national.com/packaging/folders/mf05a.html
footprint MF05A_N (SOT23, 5-Leads, Body 2.9x1.6mm, Pitch 0.95mm, Lead Span 2.8mm, IPC Medium Density)
footprint MF05A_L (SOT23, 5-Leads, Body 2.9x1.6mm, Pitch 0.95mm, Lead Span 2.8mm, IPC High Density)
footprint MF05A_M (SOT23, 5-Leads, Body 2.9x1.6mm, Pitch 0.95mm, Lead Span 2.8mm, IPC Low Density)
pins: 1 IN (power), 2 GND (power), 3 ON/~{OFF} (in), 4 CBYP, 5 OUT (power)

## LP2992IM5-1.8/NOPB
designator U?
Micropower 250 mA Low-Noise Ultra Low-Dropout Regulator, 5-pin SOT-23, Pb-Free; PartNumber: LP2992IM5-1.8/NOPB; Manufacturer: National Semiconductor; PackageTopMarking: LFCB*XTT; PowerWise: N; CompType: LDO IC; High-Reliability: Y; DatasheetVersion: May-2005; PackageVersion: revD, Aug-2008; PackageReference: MF05A; PackageDescription: Molded SOT-23, .115 x .063 x .040 in Body, 5 Lead, .0375 in Pitch; RoHS: Y; PinCount: 5; ComponentLink1Description: Manufacturer URL; ComponentLink1URL: http://www.national.com/; ComponentLink2Description: LP2992 Datasheet; ComponentLink2URL: http://www.national.com/ds/LP/LP2992.pdf; ComponentLink3Description: LP2992 Web Page; ComponentLink3URL: http://www.national.com/pf/LP/LP2992.html; ComponentLink4Description: MF05A Package Page; ComponentLink4URL: http://www.national.com/packaging/folders/mf05a.html
footprint MF05A_N (SOT23, 5-Leads, Body 2.9x1.6mm, Pitch 0.95mm, Lead Span 2.8mm, IPC Medium Density)
footprint MF05A_L (SOT23, 5-Leads, Body 2.9x1.6mm, Pitch 0.95mm, Lead Span 2.8mm, IPC High Density)
footprint MF05A_M (SOT23, 5-Leads, Body 2.9x1.6mm, Pitch 0.95mm, Lead Span 2.8mm, IPC Low Density)
pins: 1 IN (power), 2 GND (power), 3 ON/~{OFF} (in), 4 CBYP, 5 OUT (power)

## LP2992IM5-2.5
designator U?
Micropower 250 mA Low-Noise Ultra Low-Dropout Regulator, 5-pin SOT-23; PartNumber: LP2992IM5-2.5; Manufacturer: National Semiconductor; PackageTopMarking: LFDB*XTT; PowerWise: N; CompType: LDO IC; High-Reliability: Y; DatasheetVersion: May-2005; PackageVersion: revD, Aug-2008; PackageReference: MF05A; PackageDescription: Molded SOT-23, .115 x .063 x .040 in Body, 5 Lead, .0375 in Pitch; RoHS: N; PinCount: 5; ComponentLink1Description: Manufacturer URL; ComponentLink1URL: http://www.national.com/; ComponentLink2Description: LP2992 Datasheet; ComponentLink2URL: http://www.national.com/ds/LP/LP2992.pdf; ComponentLink3Description: LP2992 Web Page; ComponentLink3URL: http://www.national.com/pf/LP/LP2992.html; ComponentLink4Description: MF05A Package Page; ComponentLink4URL: http://www.national.com/packaging/folders/mf05a.html
footprint MF05A_N (SOT23, 5-Leads, Body 2.9x1.6mm, Pitch 0.95mm, Lead Span 2.8mm, IPC Medium Density)
footprint MF05A_L (SOT23, 5-Leads, Body 2.9x1.6mm, Pitch 0.95mm, Lead Span 2.8mm, IPC High Density)
footprint MF05A_M (SOT23, 5-Leads, Body 2.9x1.6mm, Pitch 0.95mm, Lead Span 2.8mm, IPC Low Density)
pins: 1 IN (power), 2 GND (power), 3 ON/~{OFF} (in), 4 CBYP, 5 OUT (power)

## LP2992IM5-2.5/NOPB
designator U?
Micropower 250 mA Low-Noise Ultra Low-Dropout Regulator, 5-pin SOT-23, Pb-Free; PartNumber: LP2992IM5-2.5/NOPB; Manufacturer: National Semiconductor; PackageTopMarking: LFDB*XTT; PowerWise: N; CompType: LDO IC; High-Reliability: Y; DatasheetVersion: May-2005; PackageVersion: revD, Aug-2008; PackageReference: MF05A; PackageDescription: Molded SOT-23, .115 x .063 x .040 in Body, 5 Lead, .0375 in Pitch; RoHS: Y; PinCount: 5; ComponentLink1Description: Manufacturer URL; ComponentLink1URL: http://www.national.com/; ComponentLink2Description: LP2992 Datasheet; ComponentLink2URL: http://www.national.com/ds/LP/LP2992.pdf; ComponentLink3Description: LP2992 Web Page; ComponentLink3URL: http://www.national.com/pf/LP/LP2992.html; ComponentLink4Description: MF05A Package Page; ComponentLink4URL: http://www.national.com/packaging/folders/mf05a.html
footprint MF05A_N (SOT23, 5-Leads, Body 2.9x1.6mm, Pitch 0.95mm, Lead Span 2.8mm, IPC Medium Density)
footprint MF05A_L (SOT23, 5-Leads, Body 2.9x1.6mm, Pitch 0.95mm, Lead Span 2.8mm, IPC High Density)
footprint MF05A_M (SOT23, 5-Leads, Body 2.9x1.6mm, Pitch 0.95mm, Lead Span 2.8mm, IPC Low Density)
pins: 1 IN (power), 2 GND (power), 3 ON/~{OFF} (in), 4 CBYP, 5 OUT (power)

## LP2992IM5-3.0
designator U?
Micropower 250 mA Low-Noise Ultra Low-Dropout Regulator, 5-pin SOT-23; PartNumber: LP2992IM5-3.0; Manufacturer: National Semiconductor; PackageTopMarking: LF8B*XTT; PowerWise: N; CompType: LDO IC; High-Reliability: Y; DatasheetVersion: May-2005; PackageVersion: revD, Aug-2008; PackageReference: MF05A; PackageDescription: Molded SOT-23, .115 x .063 x .040 in Body, 5 Lead, .0375 in Pitch; RoHS: N; PinCount: 5; ComponentLink1Description: Manufacturer URL; ComponentLink1URL: http://www.national.com/; ComponentLink2Description: LP2992 Datasheet; ComponentLink2URL: http://www.national.com/ds/LP/LP2992.pdf; ComponentLink3Description: LP2992 Web Page; ComponentLink3URL: http://www.national.com/pf/LP/LP2992.html; ComponentLink4Description: MF05A Package Page; ComponentLink4URL: http://www.national.com/packaging/folders/mf05a.html
footprint MF05A_N (SOT23, 5-Leads, Body 2.9x1.6mm, Pitch 0.95mm, Lead Span 2.8mm, IPC Medium Density)
footprint MF05A_L (SOT23, 5-Leads, Body 2.9x1.6mm, Pitch 0.95mm, Lead Span 2.8mm, IPC High Density)
footprint MF05A_M (SOT23, 5-Leads, Body 2.9x1.6mm, Pitch 0.95mm, Lead Span 2.8mm, IPC Low Density)
pins: 1 IN (power), 2 GND (power), 3 ON/~{OFF} (in), 4 CBYP, 5 OUT (power)

## LP2992IM5-3.0/NOPB
designator U?
Micropower 250 mA Low-Noise Ultra Low-Dropout Regulator, 5-pin SOT-23, Pb-Free; PartNumber: LP2992IM5-3.0/NOPB; Manufacturer: National Semiconductor; PackageTopMarking: LF8B*XTT; PowerWise: N; CompType: LDO IC; High-Reliability: Y; DatasheetVersion: May-2005; PackageVersion: revD, Aug-2008; PackageReference: MF05A; PackageDescription: Molded SOT-23, .115 x .063 x .040 in Body, 5 Lead, .0375 in Pitch; RoHS: Y; PinCount: 5; ComponentLink1Description: Manufacturer URL; ComponentLink1URL: http://www.national.com/; ComponentLink2Description: LP2992 Datasheet; ComponentLink2URL: http://www.national.com/ds/LP/LP2992.pdf; ComponentLink3Description: LP2992 Web Page; ComponentLink3URL: http://www.national.com/pf/LP/LP2992.html; ComponentLink4Description: MF05A Package Page; ComponentLink4URL: http://www.national.com/packaging/folders/mf05a.html
footprint MF05A_N (SOT23, 5-Leads, Body 2.9x1.6mm, Pitch 0.95mm, Lead Span 2.8mm, IPC Medium Density)
footprint MF05A_L (SOT23, 5-Leads, Body 2.9x1.6mm, Pitch 0.95mm, Lead Span 2.8mm, IPC High Density)
footprint MF05A_M (SOT23, 5-Leads, Body 2.9x1.6mm, Pitch 0.95mm, Lead Span 2.8mm, IPC Low Density)
pins: 1 IN (power), 2 GND (power), 3 ON/~{OFF} (in), 4 CBYP, 5 OUT (power)